# EAGLE library part MAX1720 (library misc)
Charge Pump Switching Regulator IC Positive or Negative Fixed -Vin, 2Vin 1 Output 50mA SOT-23-6 Thin, TSOT-23-6
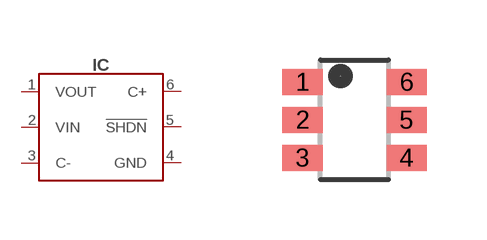
[diagram p49: symbol with the pads of SOT23-6; footprint SOT23-6]

Designator prefix IC

## MAX1720 (DIGIKEY#: MAX1720EUTGOSCT-ND; MANF: ON Semiconductor; MANF#: MAX1720EUTG)  [SOT23-6]
1  VOUT
2  VIN
3  C-
4  GND
5  !SHDN
6  C+

## Footprint SOT23-6 (pad centres in mm)
smd 1 x 0.65: 1 -1.3,0.95; 2 -1.3,0; 3 -1.3,-0.95; 4 1.3,-0.95; 5 1.3,0; 6 1.3,0.95